# Altium footprint library CAP SMD TANTALUM.PcbLib: 6 footprints
Each footprint in its own frame and in the unit in brackets; x right, y up, seen from the top. Pads: shape width x height; smd on the part's side, far side on the other; paste and mask are expansions set on the pad; w line width, h text height; cw(c..) or ccw(c..) is an arc to the next point about the centre after c.
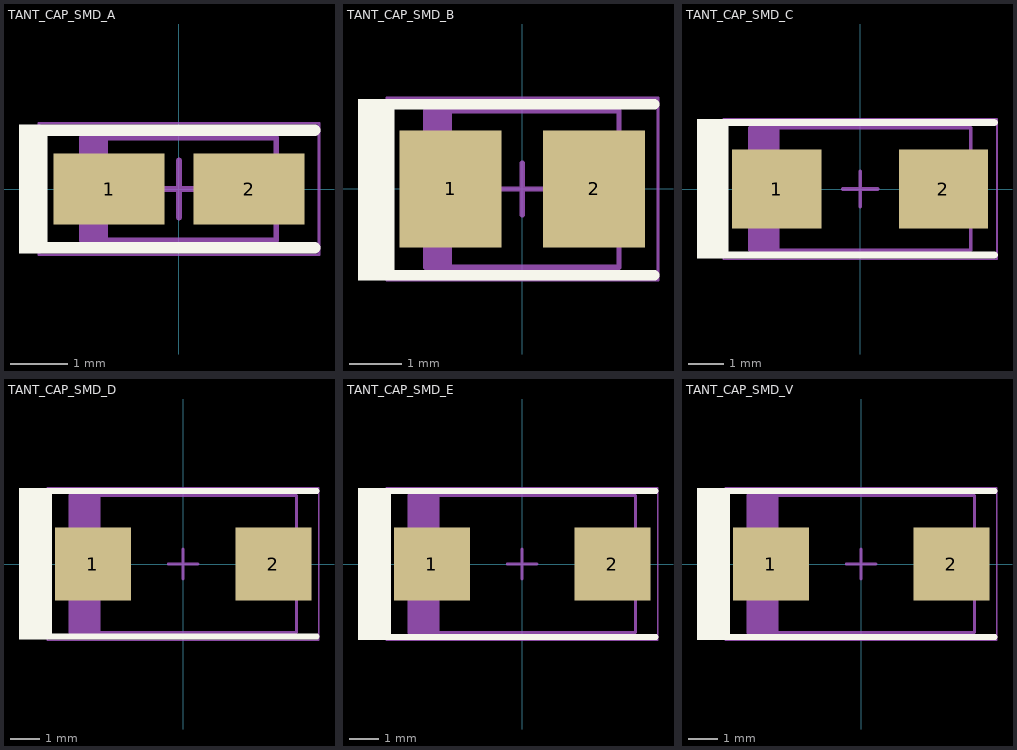
[diagram p0: the footprints below, top view; thin cyan lines are the x and y axes]

## TANT_CAP_SMD_A [mm]
height 1.8
pads (2):
  rect 1.95x1.25 smd: 1(-1.225,0) 2(1.225,0)
Top Overlay:
  rectangle: -2.8,-1.125 -2.3,1.125
  lines w0.2: -2.375,-1.025 2.375,-1.025 ; -2.375,1.025 2.375,1.025
Assembly:
  rectangle: -1.7,-0.9 -1.243,0.9
  lines w0.1: -1.7,-0.9 1.7,-0.9 1.7,0.9 -1.7,0.9 -1.7,-0.9
Mechanical 15:
  lines w0.05: -2.45,-1.15 2.45,-1.15 2.45,1.15 -2.45,1.15 -2.45,-1.15
  lines w0.1: -0.5,0 0.5,0 ; 0,-0.5 0,0.5
3D body "TANT_CAP_SMD_A.step": height 1.8, standoff 0, extent -1.92,-0.9 1.92,0.9

## TANT_CAP_SMD_B [mm]
height 2.1
pads (2):
  rect 1.95x2.25 smd: 1(-1.375,0) 2(1.375,0)
Top Overlay:
  rectangle: -3.15,-1.75 -2.45,1.725
  lines w0.2: -2.525,-1.65 2.525,-1.65 ; -2.5,1.625 2.525,1.625
Assembly:
  rectangle: -1.85,-1.5 -1.352,1.5
  lines w0.1: -1.85,-1.5 1.85,-1.5 1.85,1.5 -1.85,1.5 -1.85,-1.5
Mechanical 15:
  lines w0.05: -2.6,-1.75 2.6,-1.75 2.6,1.75 -2.6,1.75 -2.6,-1.75
  lines w0.1: -0.5,0 0.5,0 ; 0,-0.5 0,0.5
3D body "TANT_CAP_SMD_B.step": height 2.1, standoff 0, extent -2.07,-1.5 2.07,1.5

## TANT_CAP_SMD_C [mm]
height 2.8
pads (2):
  rect 2.55x2.25 smd: 1(-2.375,0) 2(2.375,0)
Top Overlay:
  rectangle: -4.65,-1.975 -3.75,2
  lines w0.2: -3.825,-1.875 3.825,-1.875 ; -3.825,1.9 3.825,1.9
Assembly:
  rectangle: -3.15,-1.75 -2.303,1.75
  lines w0.1: -3.15,-1.75 -3.15,1.75 3.15,1.75 3.15,-1.75 -3.15,-1.75
Mechanical 15:
  lines w0.05: -3.9,-2 -3.9,2 3.9,2 3.9,-2 -3.9,-2
  lines w0.1: -0.5,0 0.5,0 ; 0,-0.5 0,0.5
3D body "TANT_CAP_SMD_C.step": height 2.8, standoff 0, extent -3.37,-1.75 3.37,1.75

## TANT_CAP_SMD_D [mm]
height 3.1
pads (2):
  rect 2.55x2.45 smd: 1(-3.025,0) 2(3.025,0)
Top Overlay:
  rectangle: -5.5,-2.525 -4.4,2.55
  lines w0.2: -4.475,-2.425 4.475,-2.425 ; -4.475,2.45 4.475,2.45
Assembly:
  rectangle: -3.8,-2.3 -2.778,2.3
  lines w0.1: -3.8,-2.3 3.8,-2.3 3.8,2.3 -3.8,2.3 -3.8,-2.3
Mechanical 15:
  lines w0.05: -4.55,-2.55 4.55,-2.55 4.55,2.55 -4.55,2.55 -4.55,-2.55
  lines w0.1: -0.5,0 0.5,0 ; 0,-0.5 0,0.5
3D body "TANT_CAP_SMD_D.step": height 3.1, standoff 0, extent -4.02,-2.3 4.02,2.3

## TANT_CAP_SMD_E [mm]
height 4.3
pads (2):
  rect 2.55x2.45 smd: 1(-3.025,0) 2(3.025,0)
Top Overlay:
  rectangle: -5.5,-2.55 -4.4,2.55
  lines w0.2: -4.475,-2.45 4.475,-2.45 ; -4.475,2.45 4.475,2.45
Assembly:
  rectangle: -3.8,-2.3 -2.778,2.3
  lines w0.1: -3.8,-2.3 3.8,-2.3 3.8,2.3 -3.8,2.3 -3.8,-2.3
Mechanical 15:
  lines w0.05: -4.55,-2.55 4.55,-2.55 4.55,2.55 -4.55,2.55 -4.55,-2.55
  lines w0.1: -0.5,0 0.5,0 ; 0,-0.5 0,0.5
3D body "TANT_CAP_SMD_E.step": height 4.3, standoff 0, extent -4.02,-2.3 4.02,2.3

## TANT_CAP_SMD_V [mm]
height 2
pads (2):
  rect 2.55x2.45 smd: 1(-3.025,0) 2(3.025,0)
Top Overlay:
  rectangle: -5.5,-2.55 -4.4,2.55
  lines w0.2: -4.475,-2.45 4.475,-2.45 ; -4.475,2.45 4.475,2.45
Assembly:
  rectangle: -3.8,-2.3 -2.778,2.3
  lines w0.1: -3.8,-2.3 -3.8,2.3 3.8,2.3 3.8,-2.3 -3.8,-2.3
Mechanical 15:
  lines w0.05: -4.55,-2.55 -4.55,2.55 4.55,2.55 4.55,-2.55 -4.55,-2.55
  lines w0.1: -0.5,0 0.5,0 ; 0,-0.5 0,0.5
3D body "TANT_CAP_SMD_V.step": height 2, standoff 0, extent -4.02,-2.3 4.02,2.3